# EAGLE library part LTC3425 (library bt)
Linear Technologies LTC3525 Step Up DC-DC Voltage Regulator The LTC®3525-3/LTC3525-3.3/LTC3525-5 are high effciency synchronous step-up DC/DC converters with output disconnect that can start up with an input as low as 1V. They offer a compact, high ef? ciency alternative to charge pumps in single cell or dual cell alkaline or Li-ion applications. Only three small external components are required. The LTC3525 is offered in ? xed output voltages of 3V, 3.3V or 5V. Reference: http://cds.linear.com/docs/Datasheet/3525fa.pdf
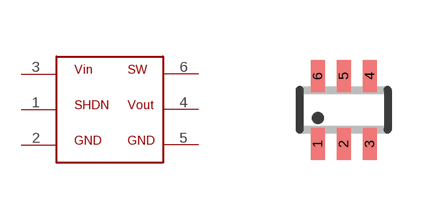
[diagram p0: symbol with the pads of SC70-6L; footprint SC70-6L]

Designator prefix -

## LTC3425  [SC70-6L]
1  P$1  in
2  P$2  pwr
3  P$3  pwr
4  P$4  pwr
5  P$5  pwr
6  P$6

## Footprint SC70-6L (pad centres in mm)
SC-70 Package
smd 0.35 x 0.8: 1 -0.65,-0.85; 2 0,-0.85; 3 0.65,-0.85; 4 0.65,0.85; 5 0,0.85; 6 -0.65,0.85